# Altium footprint library Hw_Prj_PCB.PcbLib: 20 footprints (part 1 of 2)
Each footprint in its own frame and in the unit in brackets; x right, y up, seen from the top. Pads: shape width x height; smd on the part's side, far side on the other; paste and mask are expansions set on the pad; w line width, h text height; cw(c..) or ccw(c..) is an arc to the next point about the centre after c.
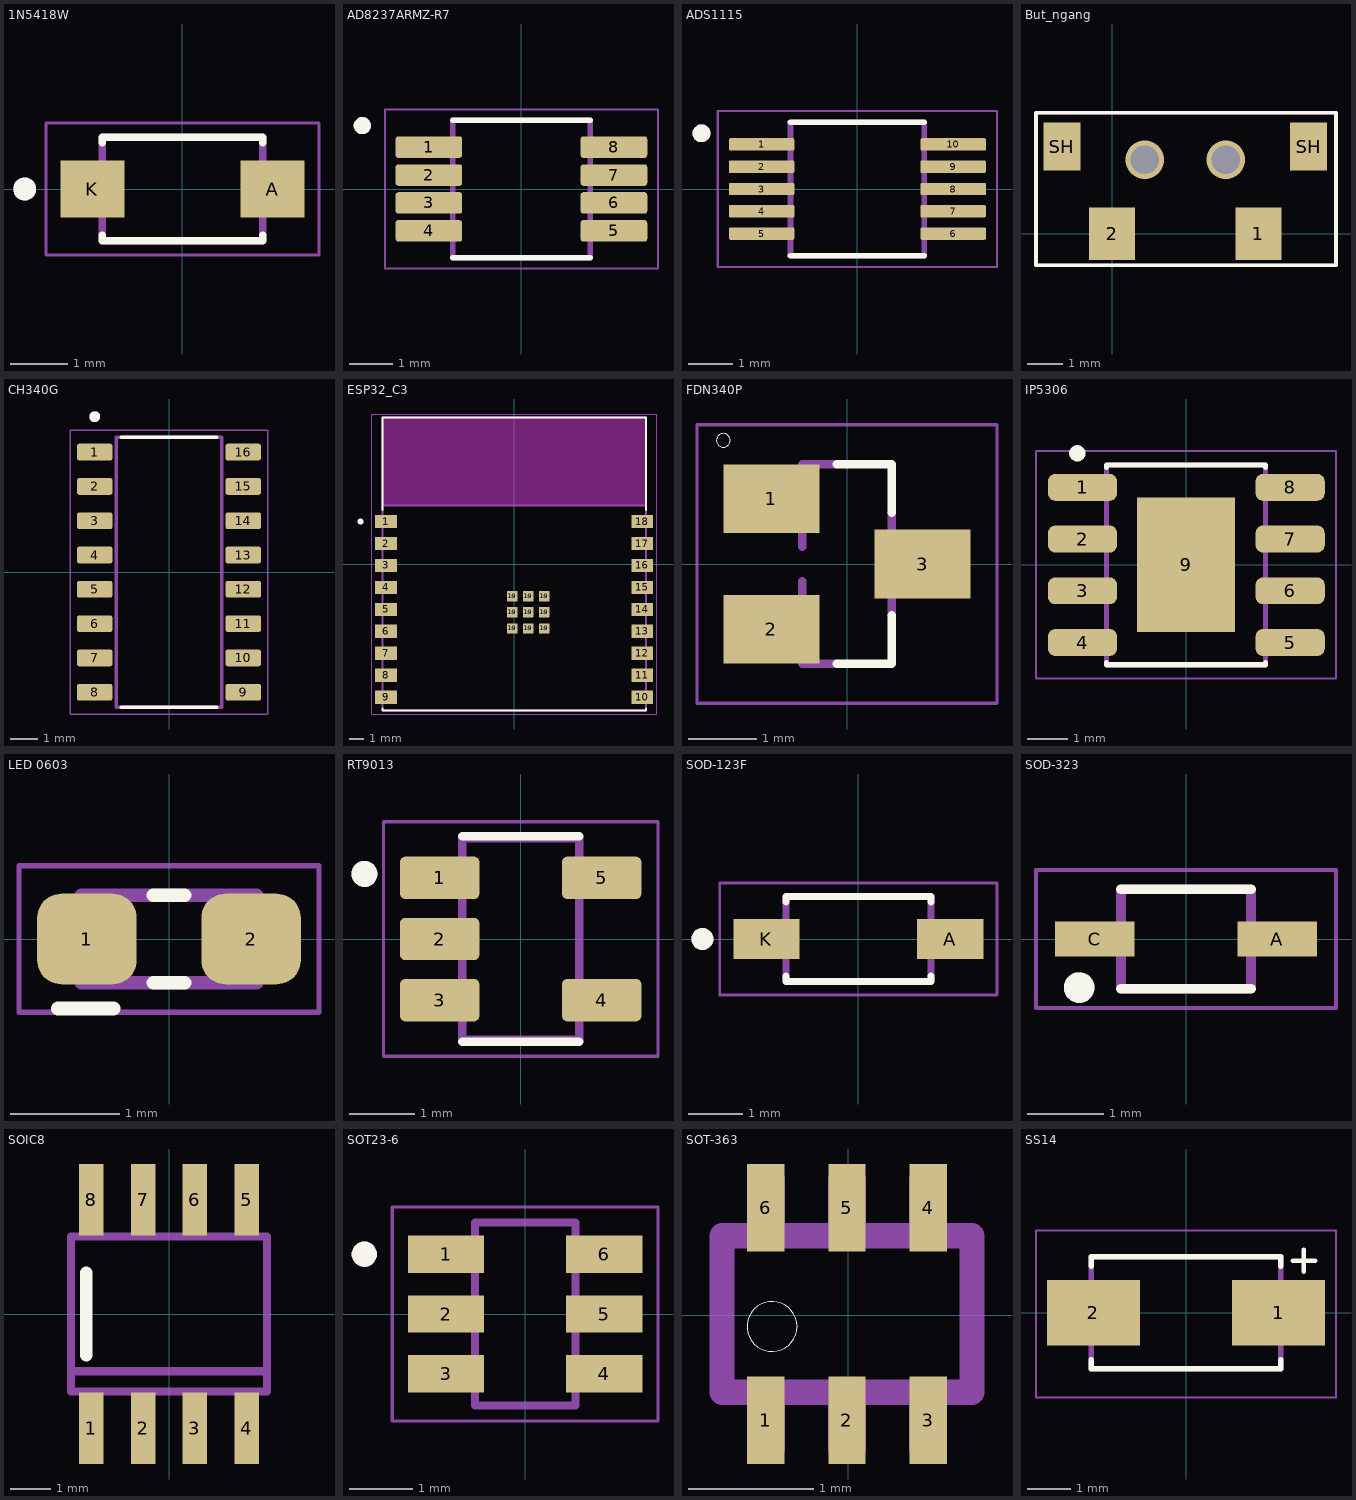
[diagram p0: the footprints below, top view; thin cyan lines are the x and y axes]

## 1N5418W [mm]
pads (2):
  rect 1.12x0.99 smd: A(1.57,0) K(-1.57,0)
Top Overlay:
  circle w0.2: c-2.75,0 r0.1
  lines w0.127: -1.4,-0.808 -1.4,-0.9 1.4,-0.9 1.4,-0.808 ; -1.4,0.808 -1.4,0.9 1.4,0.9 1.4,0.808
Mechanical 13:
  circle w0.2: c-2.75,0 r0.1
  lines w0.127: -1.4,-0.9 1.4,-0.9 1.4,0.9 -1.4,0.9 -1.4,-0.9
Mechanical 15:
  lines w0.05: -2.38,-1.15 2.38,-1.15 2.38,1.15 -2.38,1.15 -2.38,-1.15
  text ".Designator" at -2.032,-0.212 h0.51
3D body "1N5819W.STEP": height 1.1, standoff 0, extent -1.8,-0.9 1.8,0.9

## AD8237ARMZ-R7 [mm] "Instrumentation Amplifier 1 Circuit Rail-to-Rail 8-MSOP"
pads (8):
  rrect25% 1.55x0.5 smd: 1(-2.155,0.975) 2(-2.155,0.325) 3(-2.155,-0.325) 4(-2.155,-0.975) 5(2.155,-0.975) 6(2.155,-0.325) 7(2.155,0.325) 8(2.155,0.975)
Top Overlay:
  circle w0.2: c-3.705,1.475 r0.1
  lines w0.127: -1.6,-1.6 1.6,-1.6 ; -1.6,1.6 1.6,1.6
Mechanical 13:
  circle w0.2: c-3.705,1.475 r0.1
  lines w0.127: -1.6,-1.6 -1.6,1.6 1.6,1.6 1.6,-1.6 -1.6,-1.6
Mechanical 15:
  lines w0.05: -3.18,-1.85 -3.18,1.85 3.18,1.85 3.18,-1.85 -3.18,-1.85
3D body "step_temp.STEP": height 1.1, standoff 0, extent -2.45,-1.5 2.45,1.5

## ADS1115 [mm]
pads (10):
  rrect25% 1.47x0.28 smd: 1(-2.15,1) 2(-2.15,0.5) 3(-2.15,0) 4(-2.15,-0.5) 5(-2.15,-1) 6(2.15,-1) 7(2.15,-0.5) 8(2.15,0) 9(2.15,0.5) 10(2.15,1)
Top Overlay:
  circle w0.2: c-3.5,1.25 r0.1
  lines w0.127: -1.5,-1.5 1.5,-1.5 ; -1.5,1.5 1.5,1.5
Mechanical 13:
  circle w0.2: c-3.5,1.25 r0.1
  lines w0.127: -1.5,-1.5 1.5,-1.5 1.5,1.5 -1.5,1.5 -1.5,-1.5
Mechanical 15:
  lines w0.05: -3.135,-1.75 3.135,-1.75 3.135,1.75 -3.135,1.75 -3.135,-1.75
  text ".Designator" at -2.667,-0.254 h0.76
3D body "step_temp.STEP": height 1.1, standoff 0, extent -2.45,-1.5 2.45,1.5

## But_ngang [mm]
pads (4):
  rect 1.3x1.5 smd: 1(4.15,0) 2(0,0)
  rect 1.05x1.35 smd: SH(-1.425,2.475) SH(5.575,2.475)
via 0.925,2.1 diameter 1.1 hole 0.8
via 3.225,2.1 diameter 1.1 hole 0.8
Top Overlay:
  lines w0.1: -2.159,-0.889 6.35,-0.889 6.35,3.429 -2.159,3.429 -2.159,-0.889
Mechanical 15:
  lines w0.1: -2.159,-0.889 6.35,-0.889 6.35,3.429 -2.159,3.429 -2.159,-0.889

## CH340G [mm]
pads (16):
  rrect25% 1.31x0.62 smd: 1(-2.75,4.445) 2(-2.75,3.175) 3(-2.75,1.905) 4(-2.75,0.635) 5(-2.75,-0.635) 6(-2.75,-1.905) 7(-2.75,-3.175) 8(-2.75,-4.445) 9(2.75,-4.445) 10(2.75,-3.175) 11(2.75,-1.905) 12(2.75,-0.635) 13(2.75,0.635) 14(2.75,1.905) 15(2.75,3.175) 16(2.75,4.445)
Top Overlay:
  circle w0.2: c-2.75,5.755 r0.1
  lines w0.127: -1.775,-5 1.775,-5 ; -1.775,5 1.775,5
Mechanical 13:
  circle w0.2: c-2.75,5.755 r0.1
  lines w0.127: -1.95,-5 -1.95,5 1.95,5 1.95,-5 -1.95,-5
Mechanical 15:
  lines w0.05: -3.655,-5.25 -3.655,5.25 3.655,5.25 3.655,-5.25 -3.655,-5.25
3D body "step_temp.STEP": height 1.8, standoff 0, extent -3,-5 3,5

## ESP32_C3 [mm]
pads (27):
  rect 1.5x0.9 smd: 1(-8.75,2.9) 2(-8.75,1.4) 3(-8.75,-0.1) 4(-8.75,-1.6) 5(-8.75,-3.1) 6(-8.75,-4.6) 7(-8.75,-6.1) 8(-8.75,-7.6) 9(-8.75,-9.1) 10(8.75,-9.1) 11(8.75,-7.6) 12(8.75,-6.1) 13(8.75,-4.6) 14(8.75,-3.1) 15(8.75,-1.6) 16(8.75,-0.1) 17(8.75,1.4) 18(8.75,2.9)
  rect 0.7x0.7 smd: 19(-0.14,-4.4) 19(-0.14,-3.3) 19(-0.14,-2.2) 19(0.96,-4.4) 19(0.96,-3.3) 19(0.96,-2.2) 19(2.06,-4.4) 19(2.06,-3.3) 19(2.06,-2.2)
via 2.06,-2.2 diameter 0.5 hole 0.3
via 0.96,-2.2 diameter 0.5 hole 0.3
via 0.96,-3.3 diameter 0.5 hole 0.3
via 2.06,-3.3 diameter 0.5 hole 0.3
via 2.06,-4.4 diameter 0.5 hole 0.3
via 0.96,-4.4 diameter 0.5 hole 0.3
via -0.14,-4.4 diameter 0.5 hole 0.3
via -0.14,-3.3 diameter 0.5 hole 0.3
via -0.14,-2.2 diameter 0.5 hole 0.3
Top Overlay:
  circle w0.2: c-10.5,2.9 r0.1
  lines w0.127: -9,-9.87 -9,-10 9,-10 9,-9.87 ; -9,3.67 -9,10 9,10 9,3.67
Keep-Out Layer:
  region: 9,4 -9,4 -9,10 9,10
  region: 9,4 -9,4 -9,10 9,10
Mechanical 13:
  circle w0.2: c-10.5,2.9 r0.1
  lines w0.127: -9,4 9,4 ; -9,4 -9,-10 9,-10 9,4 ; -9,4 -9,10 9,10 9,4
Mechanical 15:
  lines w0.05: -9.75,-10.25 9.75,-10.25 9.75,10.25 -9.75,10.25 -9.75,-10.25
  text ".Designator" at -6.985,-1.778 h1.52
3D body "step_temp.STEP": height 3.35, standoff 0, extent -9,-10 9,10

## FDN340P [mm]
pads (3):
  rect 1.4x1 smd: 1(-1.1,0.95) 2(-1.1,-0.95) 3(1.1,0)
Top Overlay:
  circle w0: c-1.8,1.8 r0.1
  lines w0.127: -0.15,-1.45 0.65,-1.45 0.65,-0.75 ; -0.15,1.45 0.65,1.45 0.65,0.75
Mechanical 13:
  region: 1.296,-0.228 0.711,-0.228 0.711,0.228 1.296,0.228
  region: -0.711,-1.17 -1.297,-1.17 -1.297,-0.711 -0.711,-0.711
  region: -0.712,0.711 -1.296,0.711 -1.296,1.169 -0.712,1.169
  lines w0.127: -0.65,-0.25 -0.65,-1.45 -0.15,-1.45 ; -0.65,0.25 -0.65,1.45 -0.15,1.45 ; 0.65,-0.75 0.65,0.75
Mechanical 15:
  lines w0.051: -2.183,-2.023 -2.183,2.023 2.183,2.023 2.183,-2.023 -2.183,-2.023
3D body "SOT23-3.stp": height 1.2, standoff 0.02, extent -1.418,-1.5 1.418,1.5

## IP5306 [mm]
pads (9):
  rrect54% 1.7x0.66 smd: 1(-2.54,1.905) 2(-2.54,0.635) 3(-2.54,-0.635) 4(-2.54,-1.905) 5(2.557,-1.905) 6(2.557,-0.635) 7(2.557,0.635) 8(2.557,1.905)
  rect 2.41x3.3 smd paste-3: 9(0,0)
Top Overlay:
  circle w0.2: c-2.667,2.74 r0.1
  lines w0.127: -1.95,-2.4 -1.95,-2.45 1.95,-2.45 1.95,-2.4 ; -1.95,2.4 -1.95,2.45 1.95,2.45 1.95,2.4
Top Paste:
  region: -0.135,0.135 -0.935,0.135 -0.935,1.375 -0.135,1.375
  region: -0.135,-1.375 -0.935,-1.375 -0.935,-0.135 -0.135,-0.135
  region: 0.935,-1.375 0.135,-1.375 0.135,-0.135 0.935,-0.135
  region: 0.935,0.135 0.135,0.135 0.135,1.375 0.935,1.375
Mechanical 13:
  lines w0.127: -1.95,-2.45 -1.95,2.45 1.95,2.45 1.95,-2.45 -1.95,-2.45
Mechanical 15:
  lines w0.05: -3.683,-2.794 -3.683,2.794 3.683,2.794 3.683,-2.794 -3.683,-2.794
3D body "step_temp.STEP": height 1.75, standoff 0, extent -3,-2.45 3,2.45

## LED 0603 [mm]
pads (2):
  rrect53% 0.91x0.83 smd: 1(-0.75,0) 2(0.75,0)
Top Overlay:
  lines w0.127: -1.016,-0.635 -0.508,-0.635 ; -0.14,-0.4 0.14,-0.4 ; -0.14,0.4 0.14,0.4
Mechanical 13:
  lines w0.127: -0.8,-0.4 0.8,-0.4 0.8,0.4 -0.8,0.4 -0.8,-0.4
Mechanical 15:
  lines w0.05: -1.37,-0.67 1.37,-0.67 1.37,0.67 -1.37,0.67 -1.37,-0.67
3D body "0603 Chip SMD LED (1.6x0.8mm).x_t": height 0.55, standoff -0.03, extent -0.8,-0.4 0.8,0.4

## RT9013 [mm]
pads (5):
  rrect25% 1.22x0.65 smd: 1(-1.245,0.94) 2(-1.245,0) 3(-1.245,-0.94) 4(1.245,-0.94) 5(1.245,0.94)
Top Overlay:
  circle w0.2: c-2.4,1 r0.1
  lines w0.127: -0.9,-1.579 0.9,-1.579 ; -0.9,1.579 0.9,1.579
Mechanical 13:
  circle w0.2: c-2.4,1 r0.1
  lines w0.127: -0.9,-1.55 -0.9,1.55 0.9,1.55 0.9,-1.55 -0.9,-1.55
Mechanical 15:
  lines w0.05: -2.11,-1.8 -2.11,1.8 2.11,1.8 2.11,-1.8 -2.11,-1.8
3D body "SOT23-5.stp": height 1.2, standoff 0.02, extent -1.418,-1.5 1.418,1.5

## SOD-123F [mm]
pads (2):
  rect 1.21x0.73 smd: A(1.68,0) K(-1.68,0)
Top Overlay:
  circle w0.2: c-2.85,0 r0.1
  lines w0.127: -1.325,-0.679 -1.325,-0.775 1.325,-0.775 1.325,-0.679 ; -1.325,0.679 -1.325,0.775 1.325,0.775 1.325,0.679
Mechanical 13:
  circle w0.2: c-2.85,0 r0.1
  lines w0.127: -1.325,-0.775 1.325,-0.775 1.325,0.775 -1.325,0.775 -1.325,-0.775
Mechanical 15:
  lines w0.05: -2.535,-1.025 2.535,-1.025 2.535,1.025 -2.535,1.025 -2.535,-1.025
  text ".Designator" at -2.159,-0.212 h0.51
3D body "step_temp.STEP": height 1.43, standoff -0.02, extent -1.825,-0.775 1.825,0.775

## SOD-323 [mm]
pads (2):
  rect 1.04x0.46 smd: A(1.19,0) C(-1.19,0)
Top Overlay:
  circle w0.2: c-1.397,-0.635 r0.1
  lines w0.127: -0.85,-0.65 0.85,-0.65 ; -0.85,0.65 0.85,0.65
Mechanical 13:
  circle w0.2: c-1.397,-0.635 r0.1
  lines w0.127: -0.85,-0.65 0.85,-0.65 0.85,0.65 -0.85,0.65 -0.85,-0.65
Mechanical 15:
  lines w0.05: -1.96,-0.9 1.96,-0.9 1.96,0.9 -1.96,0.9 -1.96,-0.9
3D body "BAT760-7.STEP": height 1.2, standoff 0, extent -1.25,-0.65 1.25,0.65

## SOIC8 [mm]
pads (8):
  rect 0.6x1.75 smd: 1(-1.905,-2.8) 2(-0.635,-2.8) 3(0.635,-2.8) 4(1.905,-2.8) 5(1.905,2.8) 6(0.635,2.8) 7(-0.635,2.8) 8(-1.905,2.8)
Top Overlay:
  lines w0.305: -2.032,-1.016 -2.032,1.016
Mechanical 13:
  region: -1.66,-3.1 -2.15,-3.1 -2.15,-2 -1.66,-2
  region: -0.39,-3.1 -0.88,-3.1 -0.88,-2 -0.39,-2
  region: 0.88,-3.1 0.39,-3.1 0.39,-2 0.88,-2
  region: 2.15,-3.1 1.66,-3.1 1.66,-2 2.15,-2
  region: 2.15,2 1.66,2 1.66,3.1 2.15,3.1
  region: 0.88,2 0.39,2 0.39,3.1 0.88,3.1
  region: -0.39,2 -0.88,2 -0.88,3.1 -0.39,3.1
  region: -1.66,2 -2.15,2 -2.15,3.1 -1.66,3.1
  region: 2.15,2 1.66,2 1.66,3.1 2.15,3.1
  lines w0.203: -2.4,-1.4 -2.4,-1.9 2.4,-1.9 2.4,-1.4 ; -2.4,-1.4 -2.4,1.9 2.4,1.9 2.4,-1.4 ; -2.4,-1.4 2.4,-1.4
3D body "step_temp.STEP": height 1.75, standoff 0, extent -2.45,-3 2.45,3

## SOT23-6 [mm]
pads (6):
  rect 1.21x0.59 smd: 1(-1.255,0.95) 2(-1.255,0) 3(-1.255,-0.95) 4(1.255,-0.95) 5(1.255,0) 6(1.255,0.95)
Top Overlay:
  circle w0.2: c-2.555,0.95 r0.1
Mechanical 13:
  circle w0.2: c-2.555,0.95 r0.1
  lines w0.127: -0.8,-1.45 -0.8,1.45 0.8,1.45 0.8,-1.45 -0.8,-1.45
Mechanical 15:
  lines w0.05: -2.11,-1.7 2.11,-1.7 2.11,1.7 -2.11,1.7 -2.11,-1.7
3D body "step_temp.STEP": height 1.45, standoff 0, extent -1.4,-1.45 1.4,1.45

## SOT-363 [mm]
pads (6):
  rect 0.3x0.7 smd: 1(-0.659,-0.841) 2(-0.009,-0.841) 3(0.641,-0.841) 4(0.641,0.859) 5(-0.009,0.859) 6(-0.659,0.859)
Top Overlay:
  circle w0: c-0.609,-0.091 r0.2
Mechanical 13:
  region: -0.509,-1.091 -0.809,-1.091 -0.809,-0.591 -0.509,-0.591
  region: 0.141,-1.091 -0.159,-1.091 -0.159,-0.591 0.141,-0.591
  region: 0.791,-1.091 0.491,-1.091 0.491,-0.591 0.791,-0.591
  region: 0.791,0.609 0.491,0.609 0.491,1.109 0.791,1.109
  region: 0.141,0.609 -0.159,0.609 -0.159,1.109 0.141,1.109
  region: -0.509,0.609 -0.809,0.609 -0.809,1.109 -0.509,1.109
  lines w0.203: -1.009,-0.616 0.991,-0.616 0.991,0.634 -1.009,0.634 -1.009,-0.616
3D body "74LVC2G17GW,125.STEP": height 1.1, standoff 0, extent -1,-1.05 1,1.05

## SS14 [mm]
pads (2):
  rect 2.12x1.5 smd: 1(2.115,0) 2(-2.115,0)
Top Overlay:
  lines w0.102: 2.438,1.194 2.946,1.194 ; 2.692,0.94 2.692,1.448
  lines w0.127: -2.165,-1.07 -2.165,-1.28 2.165,-1.28 2.165,-1.07 ; -2.165,1.07 -2.165,1.28 2.165,1.28 2.165,1.07
Mechanical 13:
  lines w0.127: -2.165,-1.28 2.165,-1.28 2.165,1.28 -2.165,1.28 -2.165,-1.28
Mechanical 15:
  lines w0.05: -3.425,-1.93 3.425,-1.93 3.425,1.88 -3.425,1.88 -3.425,-1.93
3D body "SS14L.STEP": height 2.65, standoff 0, extent -2.645,-1.838 2.695,1.787